# EAGLE library part WURTH_615004144121 (library Traficon)
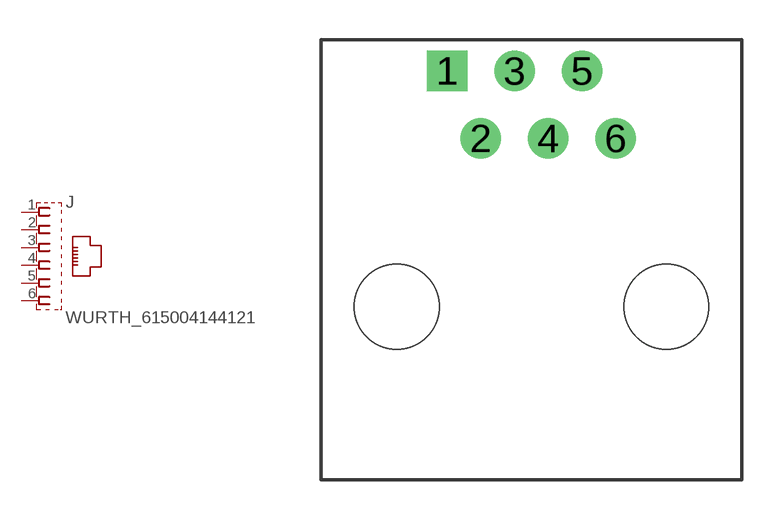
[diagram p238: symbol with the pads of WURTH_615004144121; footprint WURTH_615004144121]

Designator prefix J

## WURTH_615004144121  [WURTH_615004144121]
1  1  pas
2  2  pas
3  3  pas
4  4  pas
5  5  pas
6  6  pas

## Footprint WURTH_615004144121 (pad centres in mm)
CT: 18-06-2009, changed drill from 1.1 to 0.9 and 3.25 to 3.2, according to datasheet
drill 0.9 pad 1.524 square: 1 -3.175,8.89
drill 0.9 pad 1.524 round: 2 -1.905,6.35; 3 -0.635,8.89; 4 0.635,6.35; 5 1.905,8.89; 6 3.175,6.35
hole 3.2 at -5.08,0
hole 3.2 at 5.08,0